# Altium integrated library LSM303AGR.IntLib: 1 symbol
Pins are listed as number, name and electrical type; pins without a type are passive.

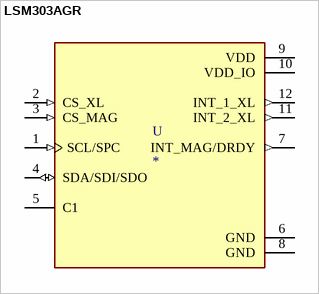
[diagram p0: symbol LSM303AGR]

## LSM303AGR
designator U
BlueNRG-MS, LPS22HB, LSM6DSM, LSM303AGR, MP34DT04, STM32L4 SensorTile Accelerometer, Gyroscope, Humidity, Magnetometer, Pressure, Temperature Sensor Evaluation Board; MF: STMicroelectronics; Availability: Unavailable; MP: LSM303AGR; Price: None; Value: *; SnapEDA_Link: https://www.snapeda.com/parts/LSM303AGR/STMicroelectronics/view-part/3601838/?ref=snap; Package: VFLGA-12 STMicroelectronics
footprint PQFN50P200X200X100-12N
pins: 1 SCL/SPC (in), 2 CS_XL (in), 3 CS_MAG (in), 4 SDA/SDI/SDO (io), 5 C1, 6 GND (power), 7 INT_MAG/DRDY (out), 8 GND (power), 9 VDD (power), 10 VDD_IO (power), 11 INT_2_XL (out), 12 INT_1_XL (out)